# Altium schematic symbol library conn-barrel_2.5x5.5MM_0.Schlib: 1 symbol
Pins are listed as number, name and electrical type; pins without a type are passive.

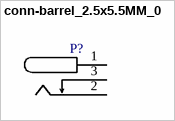
[diagram p0: symbol conn-barrel_2.5x5.5MM_0]

## conn-barrel_2.5x5.5MM_0
designator P?  (value not drawn)
pins: 1 VCC, 2 GND, 3